# EAGLE library part LT3844 (library linear-technology)
IC REG CTRLR PWM CM
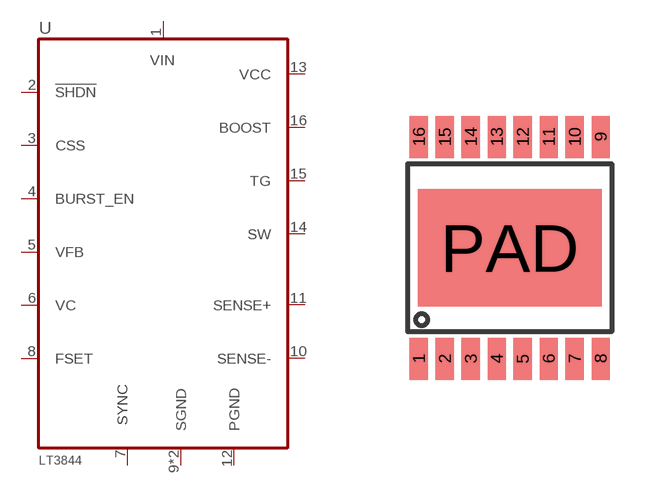
[diagram p62: symbol with the pads of TSSOP16-FE; footprint TSSOP16-FE]

Designator prefix U

## LT3844 (DIGIKEY: LT3844EFE#PBF-ND; P1I: o)  [TSSOP16-FE]
1  VIN  pwr
2  !SHDN  in
3  CSS  in
4  BURST_EN  pas
5  VFB  pas
6  VC
7  SYNC  in
8  FSET
9  SGND  pwr
10  SENSE-  in
11  SENSE+  in
12  PGND
13  VCC  out
14  SW  out
15  TG  out
16  BOOST  pas
PAD  SGND  pwr

## Footprint TSSOP16-FE (pad centres in mm)
smd 0.45 x 1.05: 1 -2.275,-2.775; 2 -1.625,-2.775; 3 -0.975,-2.775; 4 -0.325,-2.775; 5 0.325,-2.775; 6 0.975,-2.775; 7 1.625,-2.775; 8 2.275,-2.775; 9 2.275,2.775; 10 1.625,2.775; 11 0.975,2.775; 12 0.325,2.775; 13 -0.325,2.775; 14 -0.975,2.775; 15 -1.625,2.775; 16 -2.275,2.775
smd 4.6 x 2.94: PAD 0,0